# Altium schematic symbol library consubd.SchLib: 4 symbols
Pins are listed as number, name and electrical type; pins without a type are passive.

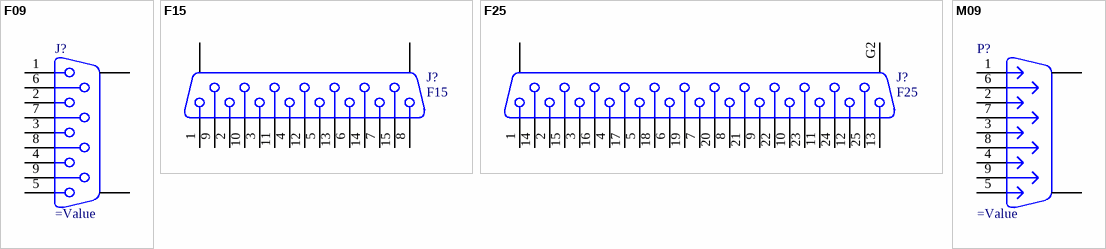
[diagram p0: symbols F09 to M09]

## F09
designator J?
FEMALE CONN DSUB RCPT 9POS; Connector Style: D-Sub; Connector Type: Receptacle, Female Sockets; Number of Positions: 9; RoHS: RoHS Compliant; Category: Connectors, Interconnects; Stock 1: 3599; Number of Rows: 2; Color: Black
footprint F09D
footprint F09H
footprint F09HP
footprint F09SMD
footprint F09V
footprint F09VP
pins: 1, 2, 3, 4, 5, 6, 7, 8, 9, G1, G2

## F15
designator J?
Receptacle Assembly, 15 Position, Right Angle; PackageDocument: O; Positions: 15; Published: 15-Jun-2001; LatestRevisionDate: 17-Jul-2002; LatestRevisionNote: Re-released for DXP Platform.; DatasheetDocument: 1-Sep-99; PackageReference: 788757; Publisher: Altium Limited; Orientation: Right Angle; Gender: Receptacle
footprint F15D
footprint F15H
footprint F15V
footprint F15VP
pins: 1, 2, 3, 4, 5, 6, 7, 8, 9, 10, 11, 12, 13, 14, 15, G1, G2

## F25
designator J?
Receptacle Assembly, 25 Position, Right Angle; PackageDocument: U; Positions: 25; Published: 15-Jun-2001; LatestRevisionDate: 17-Jul-2002; LatestRevisionNote: Re-released for DXP Platform.; DatasheetDocument: 19-Mar-1999; PackageReference: 787202; Publisher: Altium Limited; Orientation: Right Angle; Gender: Receptacle
footprint F25D
footprint F25H
footprint F25HP
footprint F15V
footprint F25V
footprint F25VP
pins: 1, 2, 3, 4, 5, 6, 7, 8, 9, 10, 11, 12, 13, 14, 15, 16, 17, 18, 19, 20, 21, 22, 23, 24, 25, G1, G2

## M09
designator P?
MALE CONN DSUB RCPT 9POS; Connector Style: D-Sub; Number of Positions: 9; RoHS: RoHS Compliant; Category: Connectors, Interconnects; Stock 1: 3599; Connector Type: Male; Number of Rows: 2; Color: Black
footprint M09D
footprint M09H
footprint M09HP
footprint M09SMT
footprint M09V
footprint M09VP
pins: 1, 2, 3, 4, 5, 6, 7, 8, 9, G1, G2